# Altium footprint library 常用元件.PcbLib: 186 footprints (part 7 of 12)
Each footprint in its own frame and in the unit in brackets; x right, y up, seen from the top. Pads: shape width x height; smd on the part's side, far side on the other; paste and mask are expansions set on the pad; w line width, h text height; cw(c..) or ccw(c..) is an arc to the next point about the centre after c.
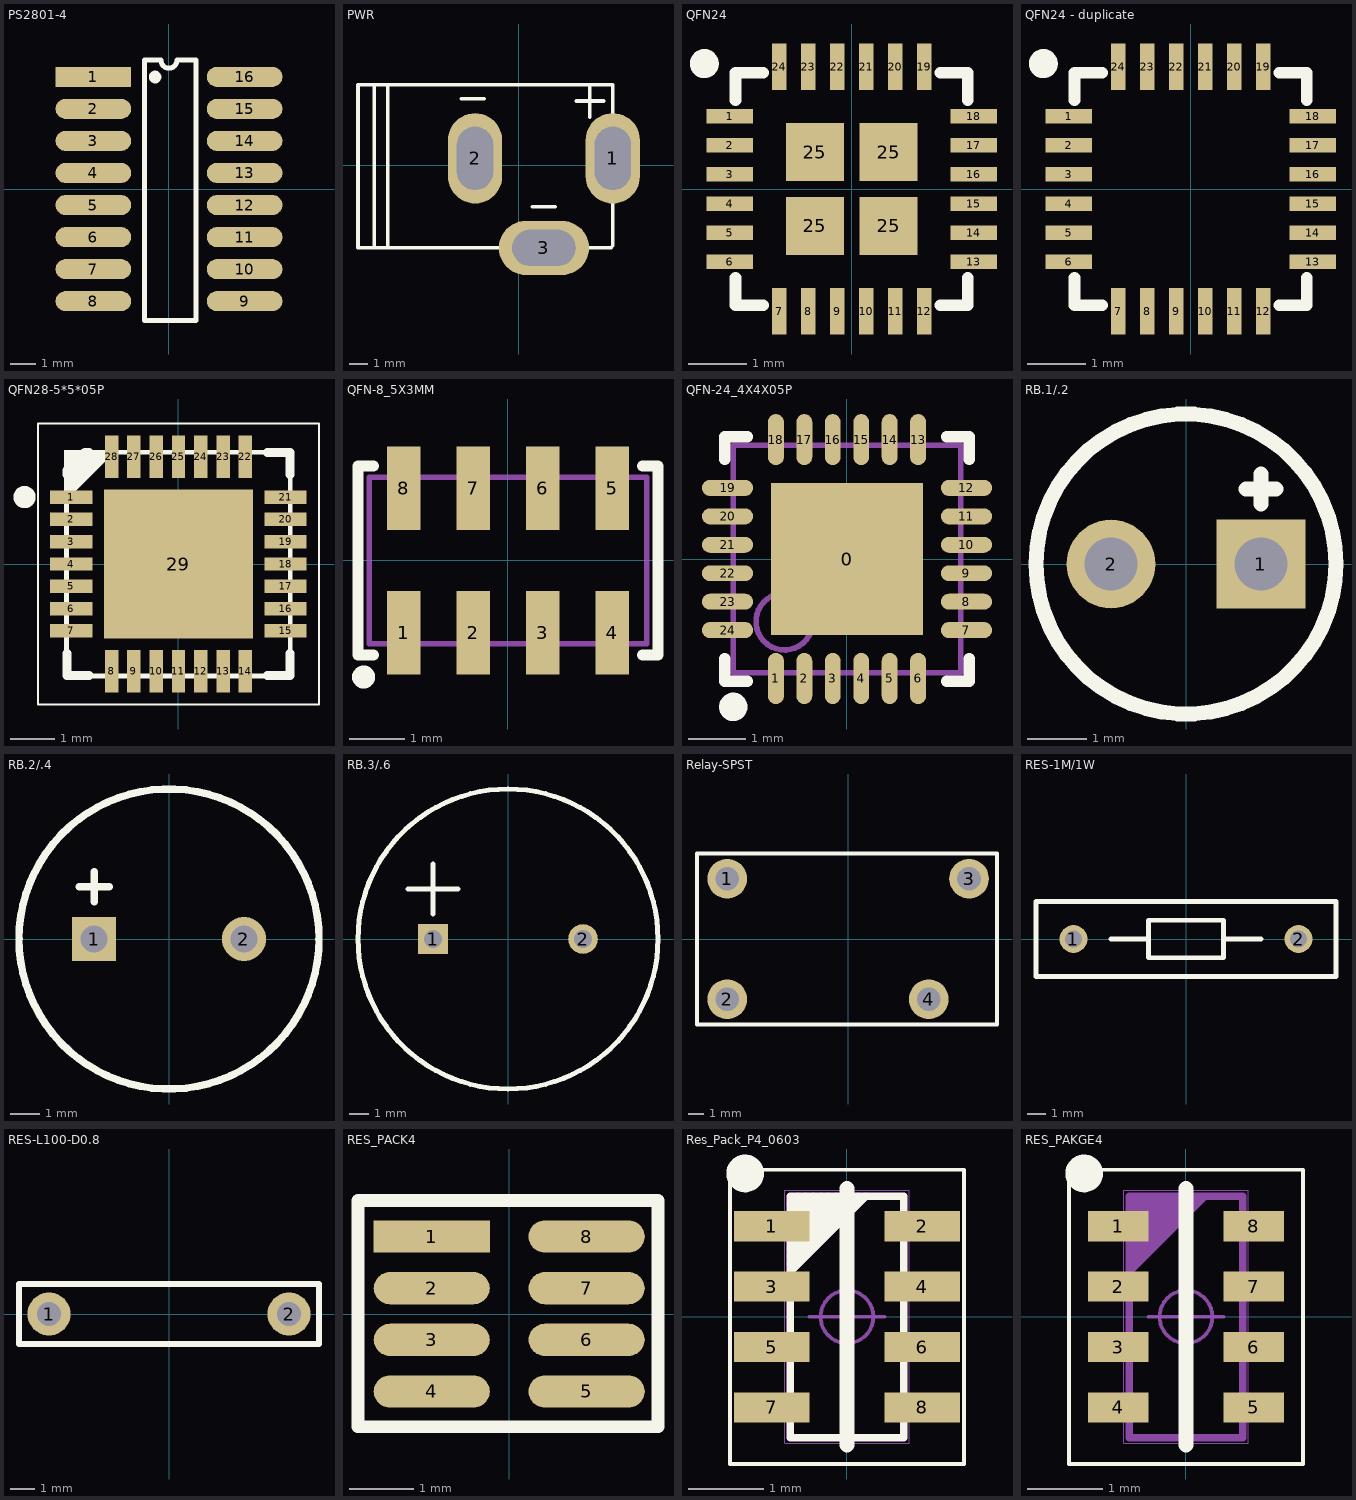
[diagram p6: the footprints below, top view; thin cyan lines are the x and y axes]

## PS2801-4 [mm]
pads (16):
  rect 3x0.8 smd: 1(-3,4.445)
  oval 3x0.8 smd: 2(-3,3.175) 3(-3,1.905) 4(-3,0.635) 5(-3,-0.635) 6(-3,-1.905) 7(-3,-3.175) 8(-3,-4.445) 9(3,-4.445) 10(3,-3.175) 11(3,-1.905) 12(3,-0.635) 13(3,0.635) 14(3,1.905) 15(3,3.175) 16(3,4.445)
Top Overlay:
  circle w0.25: c-0.553,4.438 r0.125
  lines w0.2: -0.968,5.08 -0.968,-5.207 1.064,-5.207 1.064,5.08 ; -0.968,5.105 -0.318,5.105 ; -0.32,5.105 ccw(c-0.003,5.105) 0.315,5.105 ; 0.318,5.105 1.064,5.105

## PWR [mm]
pads (3):
  oval 3x5 hole 2 slot 3.5 at 90 deg: 1(5.207,0.381) 2(-2.413,0.381)
  oval 5x3 hole 2 slot 3.5 at 0 deg: 3(1.397,-4.572)
Top Overlay:
  lines w0.2: -8.001,-4.572 -8.001,4.445 ; -7.239,-4.572 -7.239,4.445 ; -3.175,3.683 -1.905,3.683 ; 0.762,-2.286 2.032,-2.286 ; 1.397,4.445 5.207,4.445 ; 3.175,3.556 4.699,3.556 ; 3.937,2.667 3.937,4.445 ; 5.207,4.445 -8.89,4.445 -8.89,-4.572 1.397,-4.572 5.08,-4.572 5.207,-4.445 5.207,0.381 5.207,4.445
3D body: height 11, standoff -4.5, extent -9.278,-4.724 5.722,4.826

## QFN24 [mm]
pads (28):
  rect 0.8x0.25 smd: 1(-2.101,1.25) 2(-2.101,0.75) 3(-2.101,0.25) 4(-2.101,-0.25) 5(-2.101,-0.75) 6(-2.101,-1.25) 13(2.101,-1.25) 14(2.101,-0.75) 15(2.101,-0.25) 16(2.101,0.25) 17(2.101,0.75) 18(2.101,1.25)
  rect 0.25x0.8 smd: 7(-1.25,-2.101) 8(-0.75,-2.101) 9(-0.25,-2.101) 10(0.25,-2.101) 11(0.75,-2.101) 12(1.25,-2.101) 19(1.25,2.101) 20(0.75,2.101) 21(0.25,2.101) 22(-0.25,2.101) 23(-0.75,2.101) 24(-1.25,2.101)
  rect 1x1 smd: 25(-0.635,-0.635) 25(-0.635,0.635) 25(0.635,-0.635) 25(0.635,0.635)
Top Overlay:
  circle w0.25: c-2.538,2.159 r0.125
  lines w0.2: -2,-1.525 -2,-2 -1.525,-2 ; -2,1.525 -2,2 -1.525,2 ; 1.525,-2 2,-2 2,-1.525 ; 1.525,2 2,2 2,1.525

## QFN24 - duplicate [mm]
pads (24):
  rect 0.8x0.25 smd: 1(-2.101,1.25) 2(-2.101,0.75) 3(-2.101,0.25) 4(-2.101,-0.25) 5(-2.101,-0.75) 6(-2.101,-1.25) 13(2.101,-1.25) 14(2.101,-0.75) 15(2.101,-0.25) 16(2.101,0.25) 17(2.101,0.75) 18(2.101,1.25)
  rect 0.25x0.8 smd: 7(-1.25,-2.101) 8(-0.75,-2.101) 9(-0.25,-2.101) 10(0.25,-2.101) 11(0.75,-2.101) 12(1.25,-2.101) 19(1.25,2.101) 20(0.75,2.101) 21(0.25,2.101) 22(-0.25,2.101) 23(-0.75,2.101) 24(-1.25,2.101)
Top Overlay:
  circle w0.25: c-2.538,2.159 r0.125
  lines w0.2: -2,-1.525 -2,-2 -1.525,-2 ; -2,1.525 -2,2 -1.525,2 ; 1.525,-2 2,-2 2,-1.525 ; 1.525,2 2,2 2,1.525

## QFN28-5*5*05P [mm]
pads (29):
  rect 0.95x0.3 smd: 1(-2.4,1.5) 2(-2.4,1) 3(-2.4,0.5) 4(-2.4,0) 5(-2.4,-0.5) 6(-2.4,-1) 7(-2.4,-1.5) 15(2.4,-1.5) 16(2.4,-1) 17(2.4,-0.5) 18(2.4,0) 19(2.4,0.5) 20(2.4,1) 21(2.4,1.5)
  rect 0.3x0.95 smd: 8(-1.5,-2.4) 9(-1,-2.4) 10(-0.5,-2.4) 11(0,-2.4) 12(0.5,-2.4) 13(1,-2.4) 14(1.5,-2.4) 22(1.5,2.4) 23(1,2.4) 24(0.5,2.4) 25(0,2.4) 26(-0.5,2.4) 27(-1,2.4) 28(-1.5,2.4)
  rect 3.35x3.35 smd: 29(0,0)
Top Overlay:
  circle w0.05: c0,0 r0.35
  circle w0.25: c-3.45,1.5 r0.125
  lines w0.001: -2.55,-2.55 -2.55,2.55 2.55,2.55 2.55,-2.55 -2.55,-2.55
  lines w0.05: -0.5,0 0.5,0 ; 0,-0.5 0,0.5 ; -3.15,-3.15 -3.15,3.15 3.15,3.15 3.15,-3.15 -3.15,-3.15
  lines w0.1: -2.5,1.5 -1.5,2.5 ; -2.5,1.6 -1.6,2.5 ; -2.5,1.7 -1.7,2.5 ; -2.5,1.8 -1.8,2.5 ; -2.5,1.9 -1.9,2.5 ; -2.5,2 -2,2.5 ; -2.5,2.1 -2.1,2.5 ; -2.5,2.2 -2.2,2.5 ; -2.5,2.3 -2.3,2.5 ; -2.5,2.4 -2.4,2.5 ; -2.5,-2.5 -2.5,2.5 2.5,2.5 2.5,-2.5 -2.5,-2.5
  lines w0.2: -2.5,-2 -2.5,-2.5 -2,-2.5 ; -2.5,2 -2.5,2.1 -2.1,2.5 -2,2.5 ; 2,-2.5 2.5,-2.5 2.5,-2 ; 2,2.5 2.5,2.5 2.5,2
Mechanical 15:
  text "1" at 0.45,-0.164 h0.75

## QFN-8_5X3MM [mm]
pads (8):
  rect 0.6x1.5 smd: 1(-1.875,-1.3) 2(-0.625,-1.3) 3(0.625,-1.3) 4(1.875,-1.3) 5(1.875,1.3) 6(0.625,1.3) 7(-0.625,1.3) 8(-1.875,1.3)
Top Overlay:
  circle w0.254: c-2.6,-2.1 r0.08
  lines w0.2: -2.425,-1.7 -2.7,-1.7 -2.7,1.7 -2.425,1.7 ; 2.425,-1.7 2.7,-1.7 2.7,1.7 2.425,1.7
Mechanical 13:
  lines w0.1: -2.5,-1.5 -2.5,1.5 2.5,1.5 2.5,-1.5 -2.5,-1.5

## QFN-24_4X4X05P [mm]
pads (25):
  rect 2.68x2.68 smd mask+0.051: 0(0,0)
  oval 0.28x0.9 smd mask+0.051: 1(-1.25,-2.1) 2(-0.75,-2.1) 3(-0.25,-2.1) 4(0.25,-2.1) 5(0.75,-2.1) 6(1.25,-2.1) 13(1.25,2.1) 14(0.75,2.1) 15(0.25,2.1) 16(-0.25,2.1) 17(-0.75,2.1) 18(-1.25,2.1)
  oval 0.9x0.28 smd mask+0.051: 7(2.1,-1.25) 8(2.1,-0.75) 9(2.1,-0.25) 10(2.1,0.25) 11(2.1,0.75) 12(2.1,1.25) 19(-2.1,1.25) 20(-2.1,0.75) 21(-2.1,0.25) 22(-2.1,-0.25) 23(-2.1,-0.75) 24(-2.1,-1.25)
Top Overlay:
  circle w0.25: c-2,-2.6 r0.125
  lines w0.2: -2.15,-1.75 -2.15,-2.15 -1.75,-2.15 ; -2.15,1.75 -2.15,2.15 -1.75,2.15 ; 1.75,-2.15 2.15,-2.15 2.15,-1.75 ; 1.75,2.15 2.15,2.15 2.15,1.75
Mechanical 13:
  circle w0.1: c-1.1,-1.1 r0.5
  lines w0.1: -2,-2 2,-2 2,2 -2,2 -2,-2

## RB.1/.2 [mm]
pads (2):
  rect 1.5x1.5 hole 0.9: 1(1.27,0)
  round 1.5 hole 0.9: 2(-1.27,0)
Top Overlay:
  circle w0.254: c0,0 r2.54
  lines w0.254: 1.016,1.27 1.524,1.27 ; 1.27,1.016 1.27,1.524

## RB.2/.4 [mm]
pads (2):
  rect 1.5x1.5 hole 0.9: 1(-2.54,0)
  round 1.5 hole 0.9: 2(2.54,0)
Top Overlay:
  circle w0.254: c0,0 r5.08
  lines w0.254: -3.048,1.778 -2.032,1.778 ; -2.54,1.27 -2.54,2.286

## RB.3/.6 [mm]
pads (2):
  rect 1.5x1.5 hole 0.9: 1(-3.81,0)
  round 1.5 hole 0.9: 2(3.81,0)
Top Overlay:
  circle w0.254: c0,0 r7.62
  lines w0.254: -5.08,2.54 -2.54,2.54 ; -3.81,1.27 -3.81,1.524 -3.81,3.81

## Relay-SPST [mm] "4个脚的继电器"
pads (4):
  round 2.5 hole 1.5: 1(-7.62,3.8) 2(-7.62,-3.8) 3(7.62,3.8) 4(5.08,-3.8)
Top Overlay:
  lines w0.254: -9.52,-5.4 9.38,-5.4 9.38,5.4 -9.52,5.4 -9.52,-5.4

## RES-1M/1W [mm] "12MM"
pads (2):
  round 1.5 hole 0.9: 1(-6,0) 2(6,0)
Top Overlay:
  lines w0.254: -4,0 -2,0 ; 2,0 4,0 ; -8,-2 -8,2 8,2 8,-2 -8,-2 ; -2,-1 2,-1 2,1 -2,1 -2,-1

## RES-L100-D0.8 [mm] "康铜丝电阻，长100mm，粗0.8mm"
pads (2):
  round 1.8 hole 1: 1(-5,0) 2(5,0)
Top Overlay:
  lines w0.254: -6.25,-1.25 -6.25,1.25 6.25,1.25 6.25,-1.25 -6.25,-1.25

## RES_PACK4 [mm]
pads (8):
  rect 1.8x0.5 smd: 1(-1.2,1.2)
  oval 1.8x0.5 smd: 2(-1.2,0.4) 3(-1.2,-0.4) 4(-1.2,-1.2) 5(1.2,-1.2) 6(1.2,-0.4) 7(1.2,0.4) 8(1.2,1.2)
Top Overlay:
  lines w0.2: -0.541,1.759 2.305,1.759 2.305,-1.746 -2.343,-1.746 -2.343,1.759 -0.459,1.759

## Res_Pack_P4_0603 [mm]
pads (8):
  rect 1x0.4 smd: 1(-1,1.2) 2(1,1.2) 3(-1,0.4) 4(1,0.4) 5(-1,-0.4) 6(1,-0.4) 7(-1,-1.2) 8(1,-1.2)
Top Overlay:
  circle w0.25: c-1.35,1.9 r0.125
  lines w0.05: -1.55,-1.95 1.55,-1.95 1.55,1.95 -1.55,1.95 -1.55,-1.95
  lines w0.1: -0.75,0.6 0.25,1.6 ; -0.75,0.7 0.15,1.6 ; -0.75,0.8 0.05,1.6 ; -0.75,0.9 -0.05,1.6 ; -0.75,1 -0.15,1.6 ; -0.75,1.1 -0.25,1.6 ; -0.75,1.2 -0.35,1.6 ; -0.75,1.3 -0.45,1.6 ; -0.75,1.4 -0.55,1.6 ; -0.75,1.5 -0.65,1.6 ; -0.75,-1.6 0.75,-1.6 0.75,1.6 -0.75,1.6 -0.75,-1.6
  lines w0.2: 0,-1.7 0,1.7
Mechanical 1:
  lines w0.1: -0.75,0.6 0.25,1.6 ; -0.75,0.7 0.15,1.6 ; -0.75,0.8 0.05,1.6 ; -0.75,0.9 -0.05,1.6 ; -0.75,1 -0.15,1.6 ; -0.75,1.1 -0.25,1.6 ; -0.75,1.2 -0.35,1.6 ; -0.75,1.3 -0.45,1.6 ; -0.75,1.4 -0.55,1.6 ; -0.75,1.5 -0.65,1.6
Mechanical 16:
  circle w0.05: c0,0 r0.35
  lines w0.001: -0.825,-1.675 0.825,-1.675 0.825,1.675 -0.825,1.675 -0.825,-1.675
  lines w0.05: -0.5,0 0.5,0 ; 0,-0.5 0,0.5

## RES_PAKGE4 [mm]
pads (8):
  rect 0.8x0.4 smd: 1(-0.9,1.2) 2(-0.9,0.4) 3(-0.9,-0.4) 4(-0.9,-1.2) 5(0.9,-1.2) 6(0.9,-0.4) 7(0.9,0.4) 8(0.9,1.2)
Top Overlay:
  circle w0.25: c-1.35,1.9 r0.125
  lines w0.05: -1.55,-1.95 -1.55,1.95 1.55,1.95 1.55,-1.95 -1.55,-1.95
  lines w0.2: 0,-1.7 0,1.7
Mechanical 1:
  lines w0.1: -0.75,-1.6 -0.75,1.6 0.75,1.6 0.75,-1.6 -0.75,-1.6 ; -0.75,0.6 0.25,1.6 -0.75,0.6 ; -0.75,0.7 0.15,1.6 -0.75,0.7 ; -0.75,0.8 0.05,1.6 -0.75,0.8 ; -0.75,0.9 -0.05,1.6 -0.75,0.9 ; -0.75,1 -0.15,1.6 -0.75,1 ; -0.75,1.1 -0.25,1.6 -0.75,1.1 ; -0.75,1.2 -0.35,1.6 -0.75,1.2 ; -0.75,1.3 -0.45,1.6 -0.75,1.3 ; -0.75,1.4 -0.55,1.6 -0.75,1.4 ; -0.75,1.5 -0.65,1.6 -0.75,1.5
  text "R1" at 0.33,-0.365 h0.55
Mechanical 16:
  circle w0.05: c0,0 r0.35
  lines w0.001: -0.825,-1.675 -0.825,1.675 0.825,1.675 0.825,-1.675 -0.825,-1.675
  lines w0.05: -0.5,0 0.5,0 ; 0,-0.5 0,0.5